# EAGLE library part MAX14536 (library Virulent_HW)
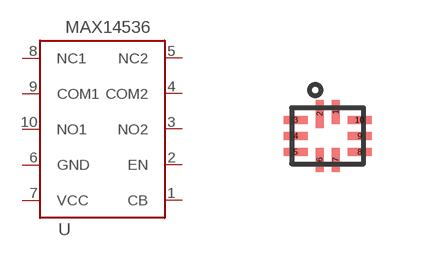
[diagram p28: symbol with the pads of 10UTQFN; footprint 10UTQFN]

Designator prefix U

## MAX14536  [10UTQFN]
1  CB
2  EN
3  NO2
4  COM2
5  NC2
6  GND
7  VCC
8  NC1
9  COM1
10  NO1

## Footprint 10UTQFN (pad centres in mm)
smd 0.2 x 0.6: 1 0.2,0.6; 6 -0.2,-0.6; 7 0.2,-0.6
smd 0.2 x 0.7: 2 -0.2,0.55
smd 0.6 x 0.2: 3 -0.8,0.4; 4 -0.8,0; 5 -0.8,-0.4; 8 0.8,-0.4; 9 0.8,0; 10 0.8,0.4